# EAGLE library part ETH-POE (library RoboJackets-Boards)
Ethernet PoE v2.1
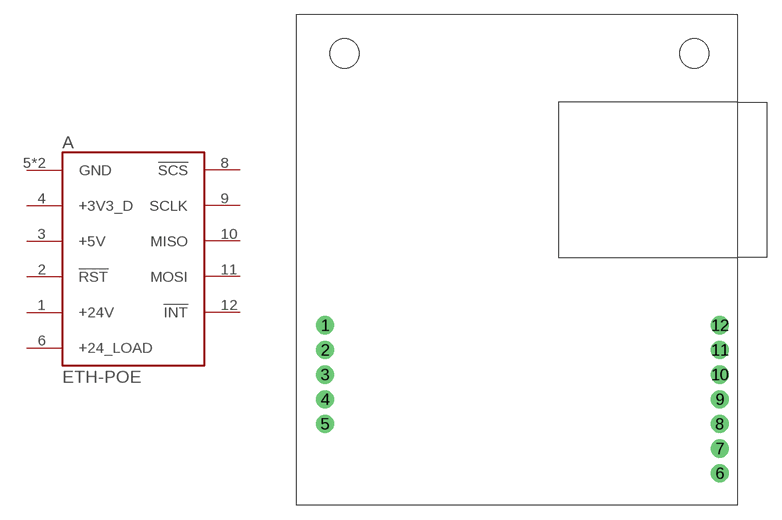
[diagram p9: symbol with the pads of ETH-POE; footprint ETH-POE]

Designator prefix A

## ETH-POE  [ETH-POE]
1  +24V
2  !RST
3  +5V
4  +3V3_D
5  GND
6  +24_LOAD
7  GND
8  !SCS
9  SCLK
10  MISO
11  MOSI
12  !INT

## Footprint ETH-POE (pad centres in mm)
Based on Ethernet PoE v2.1
drill 1.016 pad 1.88: 1 3,18.5; 2 3,15.96; 3 3,13.42; 4 3,10.88; 5 3,8.34; 6 43.64,3.26; 7 43.64,5.8; 8 43.64,8.34; 9 43.64,10.88; 10 43.64,13.42; 11 43.64,15.96; 12 43.64,18.5